# Altium schematic symbol library SCH - ARM CORTEX - NXP LPC151X LQFP64.SCHLIB: 1 symbol
Pins are listed as number, name and electrical type; pins without a type are passive.

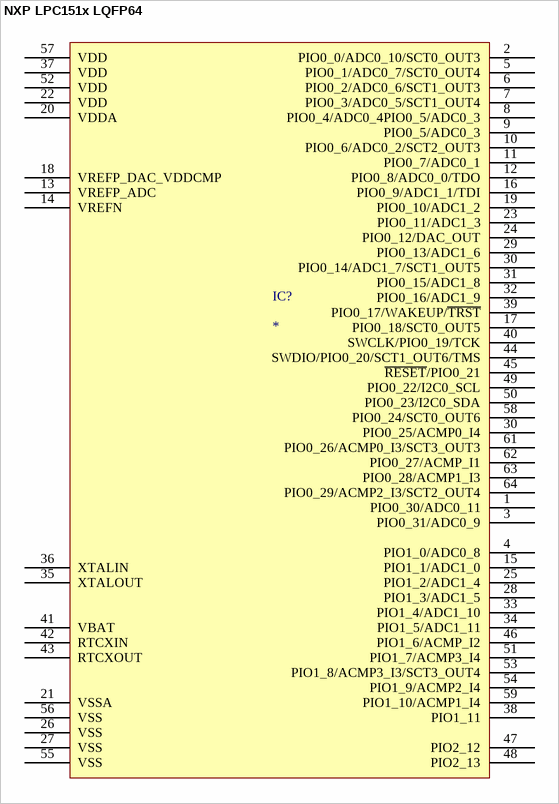
[diagram p0: symbol NXP LPC151x LQFP64]

## NXP LPC151x LQFP64
designator IC?
pins: 1 PIO0_30/ADC0_11, 2 PIO0_0/ADC0_10/SCT0_OUT3, 3 PIO0_31/ADC0_9, 4 PIO1_0/ADC0_8, 5 PIO0_1/ADC0_7/SCT0_OUT4, 6 PIO0_2/ADC0_6/SCT1_OUT3, 7 PIO0_3/ADC0_5/SCT1_OUT4, 8 PIO0_4/ADC0_4PIO0_5/ADC0_3, 9 PIO0_5/ADC0_3, 10 PIO0_6/ADC0_2/SCT2_OUT3, 11 PIO0_7/ADC0_1, 12 PIO0_8/ADC0_0/TDO, 13 VREFP_ADC, 14 VREFN, 15 PIO1_1/ADC1_0, 16 PIO0_9/ADC1_1/TDI, 17 PIO0_18/SCT0_OUT5, 18 VREFP_DAC_VDDCMP, 19 PIO0_10/ADC1_2, 20 VDDA, 21 VSSA, 22 VDD, 23 PIO0_11/ADC1_3, 24 PIO0_12/DAC_OUT, 25 PIO1_2/ADC1_4, 26 VSS, 27 VSS, 28 PIO1_3/ADC1_5, 29 PIO0_13/ADC1_6, 30 PIO0_14/ADC1_7/SCT1_OUT5, 30 PIO0_25/ACMP0_I4, 31 PIO0_15/ADC1_8, 32 PIO0_16/ADC1_9, 33 PIO1_4/ADC1_10, 34 PIO1_5/ADC1_11, 35 XTALOUT, 36 XTALIN, 37 VDD, 38 PIO1_11, 39 PIO0_17/WAKEUP/~{TRST}, 40 SWCLK/PIO0_19/TCK, 41 VBAT, 42 RTCXIN, 43 RTCXOUT, 44 SWDIO/PIO0_20/SCT1_OUT6/TMS, 45 ~{RESET}/PIO0_21, 46 PIO1_6/ACMP_I2, 47 PIO2_12, 48 PIO2_13, 49 PIO0_22/I2C0_SCL, 50 PIO0_23/I2C0_SDA, 51 PIO1_7/ACMP3_I4, 52 VDD, 53 PIO1_8/ACMP3_I3/SCT3_OUT4, 54 PIO1_9/ACMP2_I4, 55 VSS, 56 VSS, 57 VDD, 58 PIO0_24/SCT0_OUT6, 59 PIO1_10/ACMP1_I4, 61 PIO0_26/ACMP0_I3/SCT3_OUT3, 62 PIO0_27/ACMP_I1, 63 PIO0_28/ACMP1_I3, 64 PIO0_29/ACMP2_I3/SCT2_OUT4